# Altium schematic symbol library Пады.SchLib: 4 symbols
Pins are listed as number, name and electrical type; pins without a type are passive.

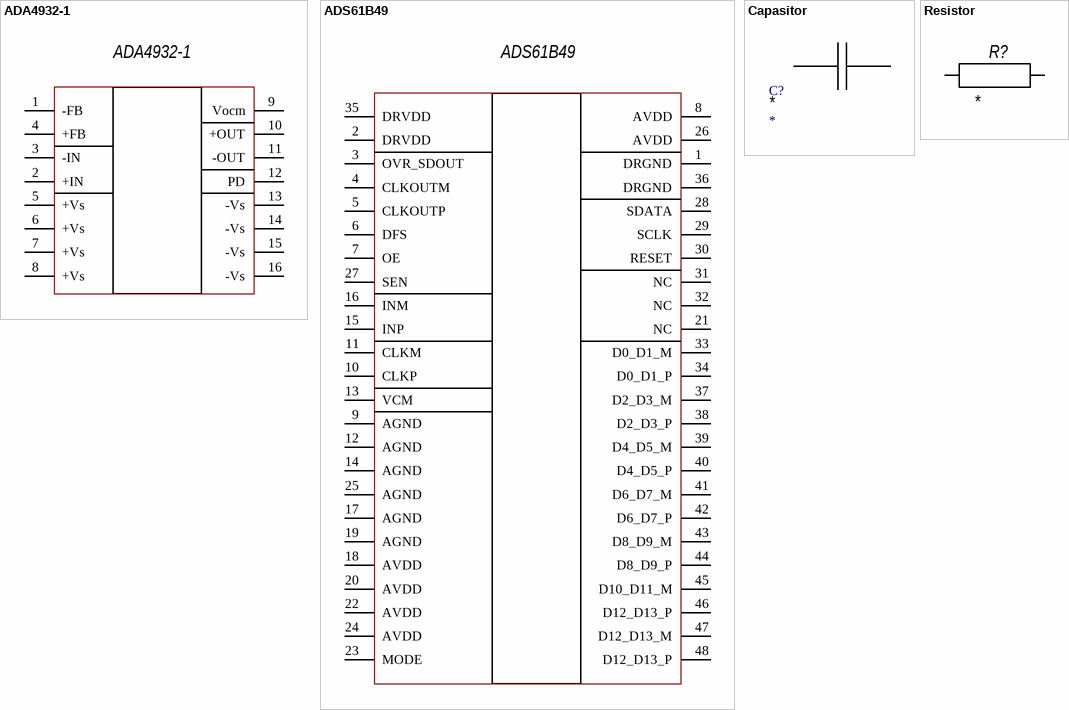
[diagram p0: symbols ADA4932-1 to Resistor]

## ADA4932-1
designator ADA4932-1  (value not drawn)
footprint CP-16-2
pins: 1 -FB, 2 +IN, 3 -IN, 4 +FB, 5 +Vs, 6 +Vs, 7 +Vs, 8 +Vs, 9 Vocm, 10 +OUT, 11 -OUT, 12 PD, 13 -Vs, 14 -Vs, 15 -Vs, 16 -Vs

## ADS61B49
designator ADS61B49  (value not drawn)
footprint VQFN-48
pins: 1 DRGND, 2 DRVDD, 3 OVR_SDOUT, 4 CLKOUTM, 5 CLKOUTP, 6 DFS, 7 OE, 8 AVDD, 9 AGND, 10 CLKP, 11 CLKM, 12 AGND, 13 VCM, 14 AGND, 15 INP, 16 INM, 17 AGND, 18 AVDD, 19 AGND, 20 AVDD, 21 NC, 22 AVDD, 23 MODE, 24 AVDD, 25 AGND, 26 AVDD, 27 SEN, 28 SDATA, 29 SCLK, 30 RESET, 31 NC, 32 NC, 33 D0_D1_M, 34 D0_D1_P, 35 DRVDD, 36 DRGND, 37 D2_D3_M, 38 D2_D3_P, 39 D4_D5_M, 40 D4_D5_P, 41 D6_D7_M, 42 D6_D7_P, 43 D8_D9_M, 44 D8_D9_P, 45 D10_D11_M, 46 D12_D13_P, 47 D12_D13_M, 48 D12_D13_P

## Capasitor
designator C?
Value: *
footprint Capasitor10X23
pins: 1 0, 2 1

## Resistor
designator R?
Value: *
footprint C2-232W
footprint SMD 0402
pins: 1, 2